# Altium schematic symbol library fHDR20x2.SchLib: 1 symbol
Pins are listed as number, name and electrical type; pins without a type are passive.

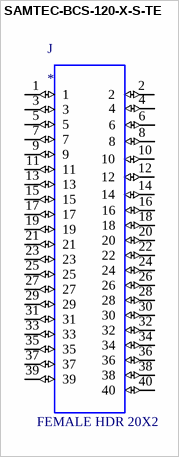
[diagram p0: symbol SAMTEC-BCS-120-X-S-TE]

## SAMTEC-BCS-120-X-S-TE
designator J
20 Position Receptacle Connector Through Hole; MP: BCS-120-S-S-TE; MF: Samtec; Package: None; Value: *; Availability: Unavailable; SnapEDA_Link: https://www.snapeda.com/parts/BCS-120-S-S-TE/Samtec/view-part/2820457/?ref=snap; Price: None
footprint SAMTEC-BCS-120-X-S-TE
pins: 1 (io), 2 (io), 3 (io), 4 (io), 5 (io), 6 (io), 7 (io), 8 (io), 9 (io), 10 (io), 11 (io), 12 (io), 13 (io), 14 (io), 15 (io), 16 (io), 17 (io), 18 (io), 19 (io), 20 (io), 21 (io), 22 (io), 23 (io), 24 (io), 25 (io), 26 (io), 27 (io), 28 (io), 29 (io), 30 (io), 31 (io), 32 (io), 33 (io), 34 (io), 35 (io), 36 (io), 37 (io), 38 (io), 39 (io), 40 (io)
text: FEMALE HDR 20X2